# Altium footprint library WDX-DIY-PCB.PCBLIB: 138 footprints (part 3 of 9)
Each footprint in its own frame and in the unit in brackets; x right, y up, seen from the top. Pads: shape width x height; smd on the part's side, far side on the other; paste and mask are expansions set on the pad; w line width, h text height; cw(c..) or ccw(c..) is an arc to the next point about the centre after c.
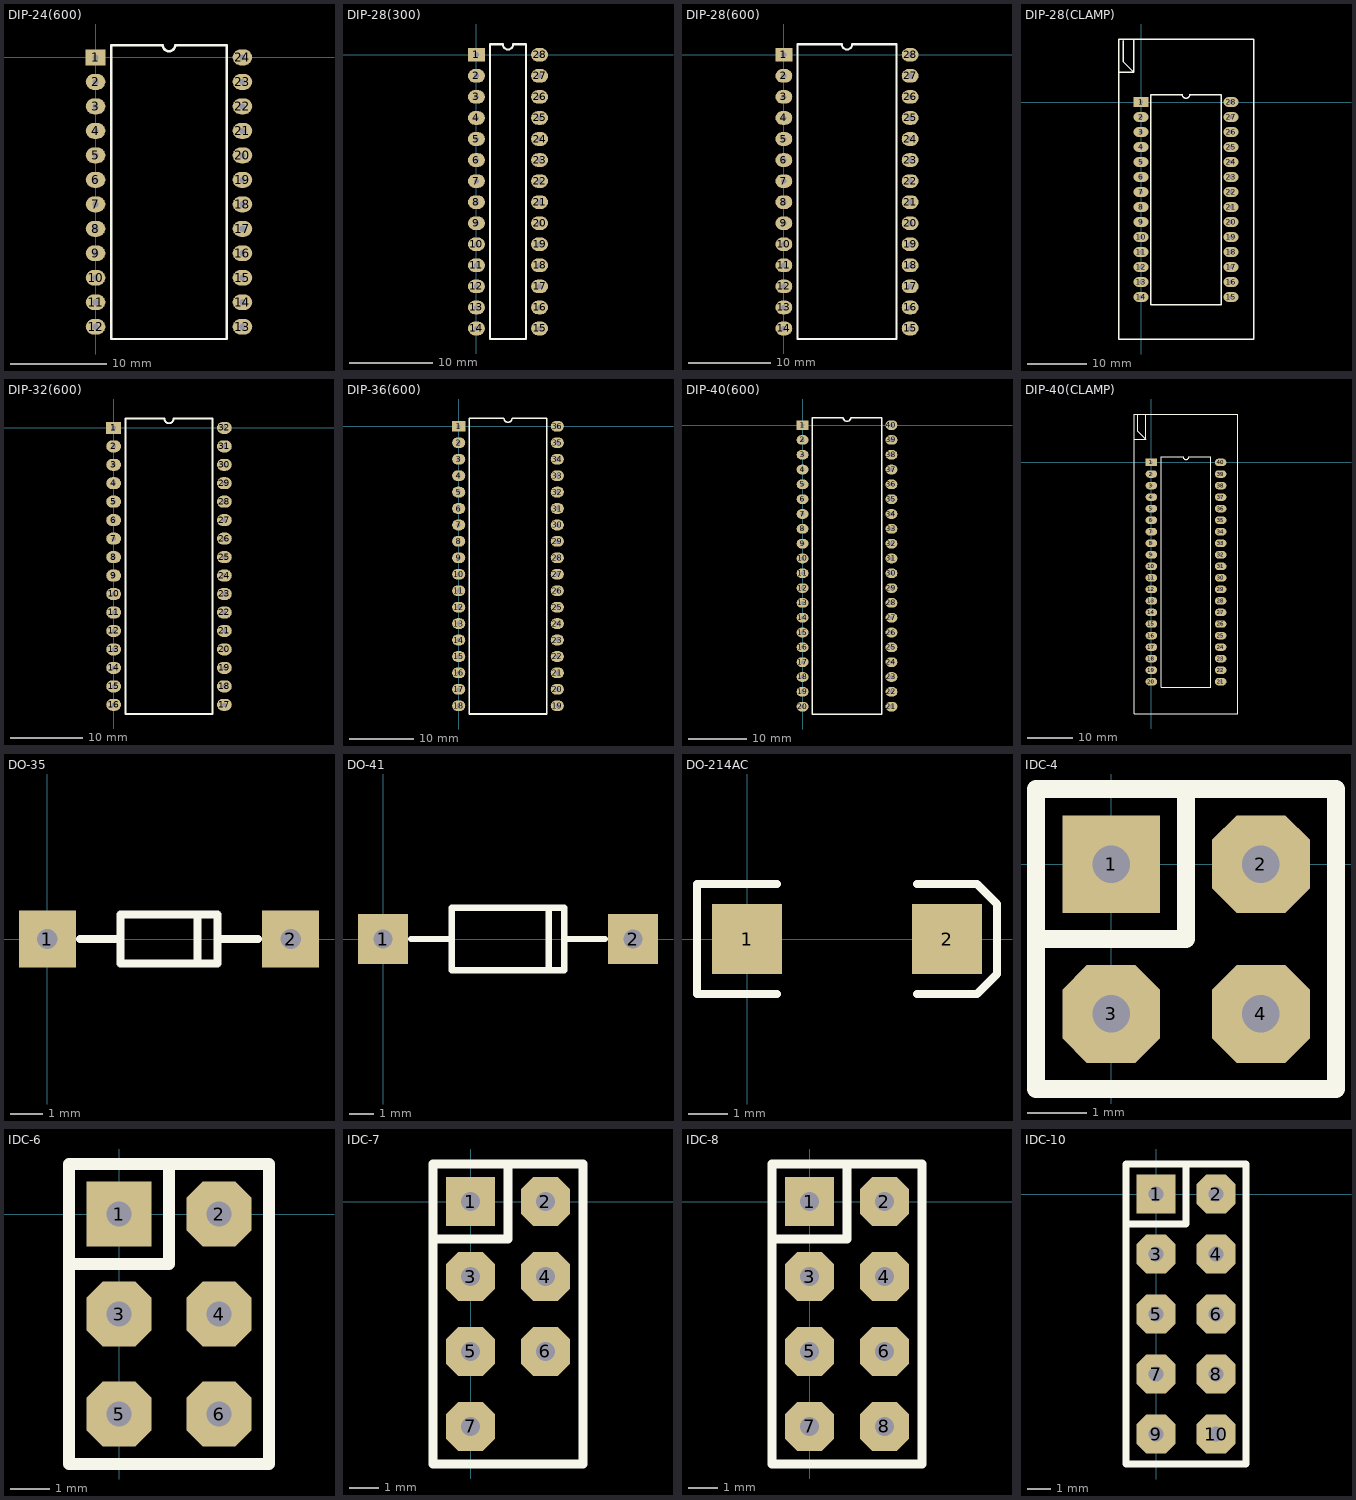
[diagram p2: the footprints below, top view; thin cyan lines are the x and y axes]

## DIP-24(600) [mil]
pads (24):
  rect 80x65 hole 25: 1(0,0)
  oval 80x65 hole 25: 2(0,-100) 3(0,-200) 4(0,-300) 5(0,-400) 6(0,-500) 7(0,-600) 8(0,-700) 9(0,-800) 10(0,-900) 11(0,-1000) 12(0,-1100) 13(600,-1100) 14(600,-1000) 15(600,-900) 16(600,-800) 17(600,-700) 18(600,-600) 19(600,-500) 20(600,-400) 21(600,-300) 22(600,-200) 23(600,-100) 24(600,0)
TopOverlay:
  lines w10: 65,-1150 65,50 275,50 ccw(c300,50) 325,50 535,50 535,-1150 65,-1150

## DIP-28(300) [mil]
pads (28):
  rect 80x65 hole 25: 1(0,0)
  oval 80x65 hole 25: 2(0,-100) 3(0,-200) 4(0,-300) 5(0,-400) 6(0,-500) 7(0,-600) 8(0,-700) 9(0,-800) 10(0,-900) 11(0,-1000) 12(0,-1100) 13(0,-1200) 14(0,-1300) 15(300,-1300) 16(300,-1200) 17(300,-1100) 18(300,-1000) 19(300,-900) 20(300,-800) 21(300,-700) 22(300,-600) 23(300,-500) 24(300,-400) 25(300,-300) 26(300,-200) 27(300,-100) 28(300,0)
TopOverlay:
  lines w10: 65,-1350 65,50 125,50 ccw(c150,50) 175,50 235,50 235,-1350 65,-1350

## DIP-28(600) [mil]
pads (28):
  rect 80x65 hole 25: 1(0,0)
  oval 80x65 hole 25: 2(0,-100) 3(0,-200) 4(0,-300) 5(0,-400) 6(0,-500) 7(0,-600) 8(0,-700) 9(0,-800) 10(0,-900) 11(0,-1000) 12(0,-1100) 13(0,-1200) 14(0,-1300) 15(600,-1300) 16(600,-1200) 17(600,-1100) 18(600,-1000) 19(600,-900) 20(600,-800) 21(600,-700) 22(600,-600) 23(600,-500) 24(600,-400) 25(600,-300) 26(600,-200) 27(600,-100) 28(600,0)
TopOverlay:
  lines w10: 65,-1350 535,-1350 535,50 325,50 cw(c300,50) 275,50 65,50 65,-1350

## DIP-28(CLAMP) [mil]
pads (28):
  rect 100x65 hole 25: 1(0,0)
  oval 100x65 hole 25: 2(0,-100) 3(0,-200) 4(0,-300) 5(0,-400) 6(0,-500) 7(0,-600) 8(0,-700) 9(0,-800) 10(0,-900) 11(0,-1000) 12(0,-1100) 13(0,-1200) 14(0,-1300) 15(600,-1300) 16(600,-1200) 17(600,-1100) 18(600,-1000) 19(600,-900) 20(600,-800) 21(600,-700) 22(600,-600) 23(600,-500) 24(600,-400) 25(600,-300) 26(600,-200) 27(600,-100) 28(600,0)
TopOverlay:
  lines w10: -150,200 -50,200 ; -120,410 -120,270 -50,200 ; -50,420 -50,200 ; -150,-1580 -150,420 750,420 750,-1580 -150,-1580 ; 65,-1350 535,-1350 535,50 325,50 cw(c300,50) 275,50 65,50 65,-1350

## DIP-32(600) [mil]
pads (32):
  rect 80x65 hole 25: 1(0,0)
  oval 80x65 hole 25: 2(0,-100) 3(0,-200) 4(0,-300) 5(0,-400) 6(0,-500) 7(0,-600) 8(0,-700) 9(0,-800) 10(0,-900) 11(0,-1000) 12(0,-1100) 13(0,-1200) 14(0,-1300) 15(0,-1400) 16(0,-1500) 17(600,-1500) 18(600,-1400) 19(600,-1300) 20(600,-1200) 21(600,-1100) 22(600,-1000) 23(600,-900) 24(600,-800) 25(600,-700) 26(600,-600) 27(600,-500) 28(600,-400) 29(600,-300) 30(600,-200) 31(600,-100) 32(600,0)
TopOverlay:
  lines w10: 65,-1550 65,50 275,50 ccw(c300,50) 325,50 535,50 535,-1550 65,-1550

## DIP-36(600) [mil]
pads (36):
  rect 80x65 hole 25: 1(0,0)
  oval 80x65 hole 25: 2(0,-100) 3(0,-200) 4(0,-300) 5(0,-400) 6(0,-500) 7(0,-600) 8(0,-700) 9(0,-800) 10(0,-900) 11(0,-1000) 12(0,-1100) 13(0,-1200) 14(0,-1300) 15(0,-1400) 16(0,-1500) 17(0,-1600) 18(0,-1700) 19(600,-1700) 20(600,-1600) 21(600,-1500) 22(600,-1400) 23(600,-1300) 24(600,-1200) 25(600,-1100) 26(600,-1000) 27(600,-900) 28(600,-800) 29(600,-700) 30(600,-600) 31(600,-500) 32(600,-400) 33(600,-300) 34(600,-200) 35(600,-100) 36(600,0)
TopOverlay:
  lines w10: 65,-1750 535,-1750 535,50 325,50 cw(c300,50) 275,50 65,50 65,-1750

## DIP-40(600) [mil]
pads (40):
  rect 80x65 hole 25: 1(0,0)
  oval 80x65 hole 25: 2(0,-100) 3(0,-200) 4(0,-300) 5(0,-400) 6(0,-500) 7(0,-600) 8(0,-700) 9(0,-800) 10(0,-900) 11(0,-1000) 12(0,-1100) 13(0,-1200) 14(0,-1300) 15(0,-1400) 16(0,-1500) 17(0,-1600) 18(0,-1700) 19(0,-1800) 20(0,-1900) 21(600,-1900) 22(600,-1800) 23(600,-1700) 24(600,-1600) 25(600,-1500) 26(600,-1400) 27(600,-1300) 28(600,-1200) 29(600,-1100) 30(600,-1000) 31(600,-900) 32(600,-800) 33(600,-700) 34(600,-600) 35(600,-500) 36(600,-400) 37(600,-300) 38(600,-200) 39(600,-100) 40(600,0)
TopOverlay:
  lines w10: 65,-1950 65,50 275,50 ccw(c300,50) 325,50 535,50 535,-1950 65,-1950

## DIP-40(CLAMP) [mil]
pads (40):
  rect 100x65 hole 25: 1(0,0)
  oval 100x65 hole 25: 2(0,-100) 3(0,-200) 4(0,-300) 5(0,-400) 6(0,-500) 7(0,-600) 8(0,-700) 9(0,-800) 10(0,-900) 11(0,-1000) 12(0,-1100) 13(0,-1200) 14(0,-1300) 15(0,-1400) 16(0,-1500) 17(0,-1600) 18(0,-1700) 19(0,-1800) 20(0,-1900) 21(600,-1900) 22(600,-1800) 23(600,-1700) 24(600,-1600) 25(600,-1500) 26(600,-1400) 27(600,-1300) 28(600,-1200) 29(600,-1100) 30(600,-1000) 31(600,-900) 32(600,-800) 33(600,-700) 34(600,-600) 35(600,-500) 36(600,-400) 37(600,-300) 38(600,-200) 39(600,-100) 40(600,0)
TopOverlay:
  lines w10: -150,200 -50,200 ; -120,410 -120,270 -50,200 ; -50,420 -50,200 ; -150,-2180 750,-2180 750,420 -150,420 -150,-2180 ; 85,-1950 515,-1950 515,50 325,50 cw(c300,50) 275,50 85,50 85,-1950

## DO-35 [mil]
pads (2):
  rect 70x70 hole 25: 1(0,0) 2(300,0)
TopOverlay:
  lines w10: 40,0 90,0 ; 185,-30 185,30 ; 210,0 260,0 ; 90,-30 210,-30 210,30 90,30 90,-30

## DO-41 [mil]
pads (2):
  rect 80x80 hole 30: 1(0,0) 2(400,0)
TopOverlay:
  lines w10: 45,0 110,0 ; 265,-50 265,50 ; 290,0 355,0 ; 110,-50 110,50 290,50 290,-50 110,-50

## DO-214AC [mil]
pads (2):
  rect 70x70 smd: 1(0,0) 2(200,0)
TopOverlay:
  lines w8: 30,-55 -50,-55 -50,55 30,55 ; 170,-55 230,-55 250,-35 250,35 230,55 170,55

## IDC-4 [mil]
pads (4):
  rect 65x65 hole 25: 1(0,0)
  oct 65x65 hole 25: 2(100,0) 3(0,-100) 4(100,-100)
TopOverlay:
  lines w12: -50,-50 50,-50 50,50 ; -50,-150 150,-150 150,50 -50,50 -50,-150

## IDC-6 [mil]
pads (6):
  rect 65x65 hole 25: 1(0,0)
  oct 65x65 hole 25: 2(100,0) 3(0,-100) 4(100,-100) 5(0,-200) 6(100,-200)
TopOverlay:
  lines w12: -50,-50 50,-50 50,50 ; -50,-250 150,-250 150,50 -50,50 -50,-250

## IDC-7 [mil]
pads (7):
  rect 65x65 hole 25: 1(0,0)
  oct 65x65 hole 25: 2(100,0) 3(0,-100) 4(100,-100) 5(0,-200) 6(100,-200) 7(0,-300)
TopOverlay:
  lines w12: -50,-50 50,-50 50,50 ; -50,-350 -50,50 150,50 150,-350 -50,-350

## IDC-8 [mil]
pads (8):
  rect 65x65 hole 25: 1(0,0)
  oct 65x65 hole 25: 2(100,0) 3(0,-100) 4(100,-100) 5(0,-200) 6(100,-200) 7(0,-300) 8(100,-300)
TopOverlay:
  lines w12: -50,-50 50,-50 50,50 ; -50,-350 150,-350 150,50 -50,50 -50,-350

## IDC-10 [mil]
pads (10):
  rect 65x65 hole 25: 1(0,0)
  oct 65x65 hole 25: 2(100,0) 3(0,-100) 4(100,-100) 5(0,-200) 6(100,-200) 7(0,-300) 8(100,-300) 9(0,-400) 10(100,-400)
TopOverlay:
  lines w12: -50,-50 50,-50 50,50 ; -50,-450 150,-450 150,50 -50,50 -50,-450